# EAGLE library part LT1910 (library 000001)
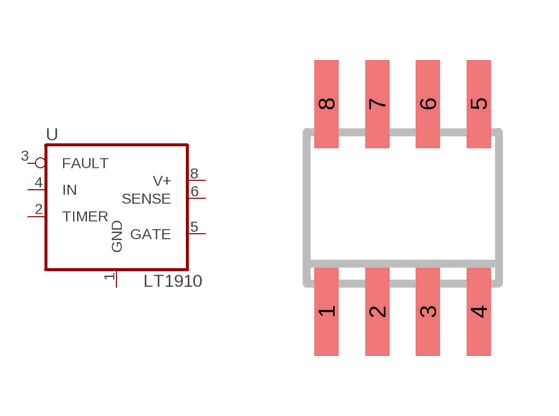
[diagram p110: symbol with the pads of SO08; footprint SO08]

Designator prefix -

## LT1910K  [SO08]
1  GND  pwr
2  TIMER  in
3  FAULT  out
4  IN  in
5  GATE  out
6  SENSE  in
8  V+  pwr

## Footprint SO08 (pad centres in mm)
Small Outline Package 8 NS Package M08A
smd 0.6 x 2.2: 1 -1.905,-2.6; 2 -0.635,-2.6; 3 0.635,-2.6; 4 1.905,-2.6; 5 1.905,2.6; 6 0.635,2.6; 7 -0.635,2.6; 8 -1.905,2.6